# Altium schematic symbol library cherrymx.SCHLIB: 3 symbols
Pins are listed as number, name and electrical type; pins without a type are passive.

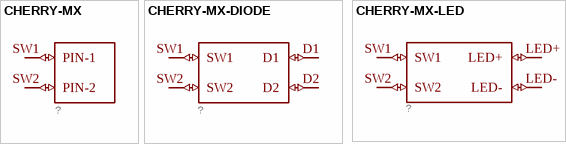
[diagram p0: symbols CHERRY-MX to CHERRY-MX-LED]

## CHERRY-MX
designator ?, comment Cherry MX series keyswitch  (value not drawn)
GateName_1: G$1; SymbolName_1: CHERRY-MX; LibraryName: cherrymx; DeviceSetName: CHERRY-MX; Package: CHERRY-MX
footprint CHERRY-MX
pins: SW1 PIN-1 (io), SW2 PIN-2 (io)

## CHERRY-MX-DIODE
designator ?, comment Cherry MX series keyswitch with diode bridge  (value not drawn)
GateName_1: G$1; SymbolName_1: CHERRY-MX-DIODE; LibraryName: cherrymx; DeviceSetName: CHERRY-MX-DIODE; Package: CHERRY-MX-DIODE
footprint CHERRY-MX-DIODE
pins: D1 (io), D2 (io), SW1 (io), SW2 (io)

## CHERRY-MX-LED
designator ?, comment Cherry MX series keyswitch with LED  (value not drawn)
GateName_1: G$1; SymbolName_1: CHERRY-MX-LED; LibraryName: cherrymx; DeviceSetName: CHERRY-MX-LED; Package: CHERRY-MX-LED
footprint CHERRY-MX-LED
pins: LED+ (io), LED- (io), SW1 (io), SW2 (io)